# Altium footprint library Header.PcbLib: 112 footprints (part 7 of 7)
Each footprint in its own frame and in the unit in brackets; x right, y up, seen from the top. Pads: shape width x height; smd on the part's side, far side on the other; paste and mask are expansions set on the pad; w line width, h text height; cw(c..) or ccw(c..) is an arc to the next point about the centre after c.
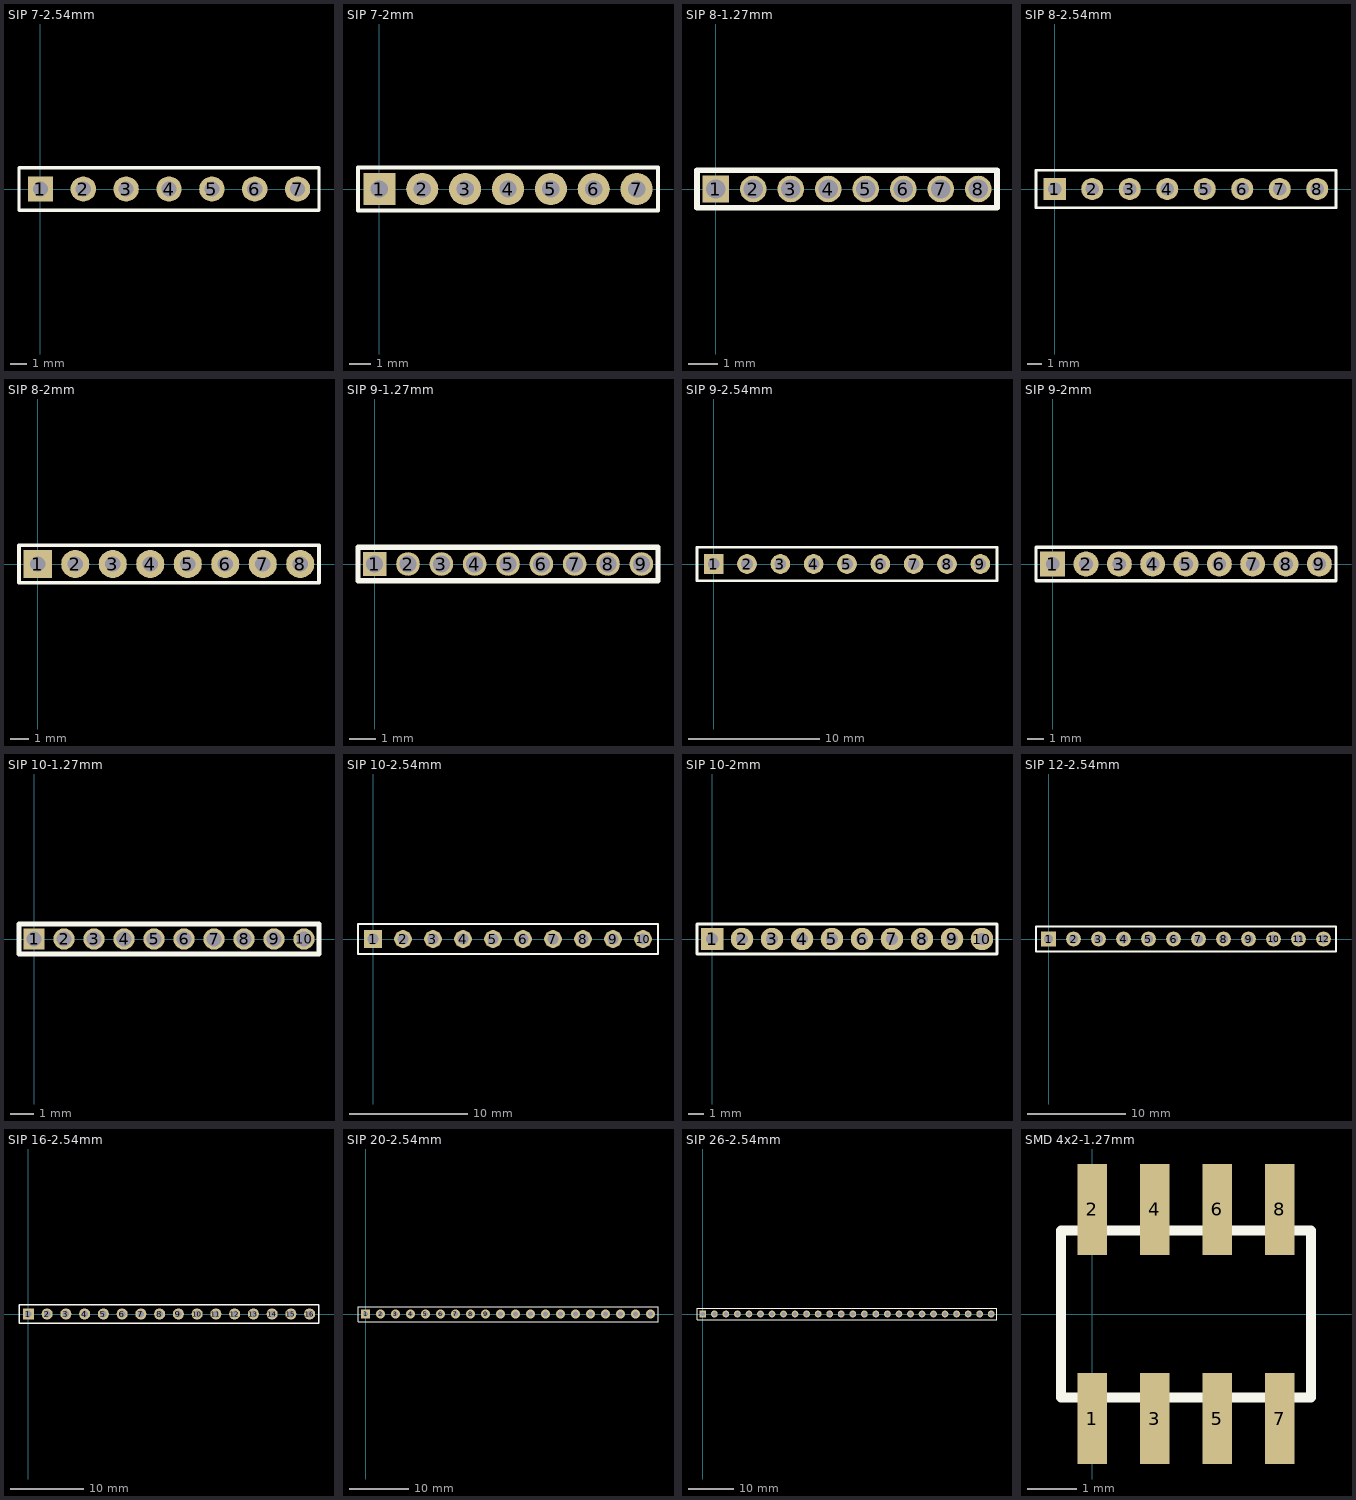
[diagram p6: the footprints below, top view; thin cyan lines are the x and y axes]

## SIP 7-2.54mm [mm]
pads (7):
  rect 1.5x1.5 hole 0.9: 1(0,0)
  round 1.5 hole 0.9: 2(2.54,0) 3(5.08,0) 4(7.62,0) 5(10.16,0) 6(12.7,0) 7(15.24,0)
Top Overlay:
  lines w0.2: -1.27,-1.27 16.51,-1.27 16.51,1.27 -1.27,1.27 -1.27,-1.27
3D body: height 7.5, standoff 0, extent 12.375,-0.325 13.025,0.325
3D body: height 7.5, standoff 0, extent 14.915,-0.325 15.565,0.325
3D body: height 7.5, standoff 0, extent 7.295,-0.325 7.945,0.325
3D body: height 7.5, standoff 0, extent 9.835,-0.325 10.485,0.325
3D body: height 7.5, standoff 0, extent 4.755,-0.325 5.405,0.325
3D body: height 7.5, standoff 0, extent 2.215,-0.325 2.865,0.325
3D body: height 1.5, standoff 0, extent -1.275,-1.275 16.51,1.275
3D body: height 7.5, standoff 0, extent -0.325,-0.325 0.325,0.325

## SIP 7-2mm [mm]
pads (7):
  rect 1.5x1.5 hole 0.813: 1(0,0)
  round 1.5 hole 0.813: 2(2,0) 3(4,0) 4(6,0) 5(8,0) 6(10,0) 7(12,0)
Top Overlay:
  lines w0.2: -1,-1 13,-1 13,1 -1,1 -1,-1
3D body: height 1.5, standoff 0, extent -1,-1 13,1
3D body: height 5.5, standoff 0, extent -0.25,-0.25 0.25,0.25
3D body: height 5.5, standoff 0, extent 1.75,-0.25 2.25,0.25
3D body: height 5.5, standoff 0, extent 3.75,-0.25 4.25,0.25
3D body: height 5.5, standoff 0, extent 5.75,-0.25 6.25,0.25
3D body: height 5.5, standoff 0, extent 7.75,-0.25 8.25,0.25
3D body: height 5.5, standoff 0, extent 9.75,-0.25 10.25,0.25
3D body: height 5.5, standoff 0, extent 11.75,-0.25 12.25,0.25

## SIP 8-1.27mm [mm]
pads (8):
  rect 0.9x0.9 hole 0.65: 1(0,0)
  round 0.9 hole 0.65: 2(1.27,0) 3(2.54,0) 4(3.81,0) 5(5.08,0) 6(6.35,0) 7(7.62,0) 8(8.89,0)
Top Overlay:
  lines w0.2: -0.635,-0.635 9.525,-0.635 9.525,0.635 -0.635,0.635 -0.635,-0.635
3D body: height 1, standoff 0, extent -0.625,-0.625 9.525,0.625
3D body: height 4, standoff 0, extent -0.2,-0.2 0.2,0.2
3D body: height 4, standoff 0, extent 1.07,-0.2 1.47,0.2
3D body: height 4, standoff 0, extent 2.34,-0.2 2.74,0.2
3D body: height 4, standoff 0, extent 3.61,-0.2 4.01,0.2
3D body: height 4, standoff 0, extent 4.88,-0.2 5.28,0.2
3D body: height 4, standoff 0, extent 6.15,-0.2 6.55,0.2
3D body: height 4, standoff 0, extent 7.42,-0.2 7.82,0.2
3D body: height 4, standoff 0, extent 8.69,-0.2 9.09,0.2

## SIP 8-2.54mm [mm]
pads (8):
  rect 1.5x1.5 hole 0.9: 1(0,0)
  round 1.5 hole 0.9: 2(2.54,0) 3(5.08,0) 4(7.62,0) 5(10.16,0) 6(12.7,0) 7(15.24,0) 8(17.78,0)
Top Overlay:
  lines w0.2: -1.27,-1.27 -1.27,1.27 19.05,1.27 19.05,-1.27 -1.27,-1.27
3D body: height 7.5, standoff 0, extent -0.325,-0.325 0.325,0.325
3D body: height 1.5, standoff 0, extent -1.275,-1.275 19.05,1.275
3D body: height 7.5, standoff 0, extent 2.215,-0.325 2.865,0.325
3D body: height 7.5, standoff 0, extent 4.755,-0.325 5.405,0.325
3D body: height 7.5, standoff 0, extent 9.835,-0.325 10.485,0.325
3D body: height 7.5, standoff 0, extent 7.295,-0.325 7.945,0.325
3D body: height 7.5, standoff 0, extent 14.915,-0.325 15.565,0.325
3D body: height 7.5, standoff 0, extent 12.375,-0.325 13.025,0.325
3D body: height 7.5, standoff 0, extent 17.455,-0.325 18.105,0.325

## SIP 8-2mm [mm]
pads (8):
  rect 1.5x1.5 hole 0.813: 1(0,0)
  round 1.5 hole 0.813: 2(2,0) 3(4,0) 4(6,0) 5(8,0) 6(10,0) 7(12,0) 8(14,0)
Top Overlay:
  lines w0.2: -1,-1 -1,1 15,1 15,-1 -1,-1
3D body: height 1.5, standoff 0, extent -1,-1 15,1
3D body: height 5.5, standoff 0, extent -0.25,-0.25 0.25,0.25
3D body: height 5.5, standoff 0, extent 1.75,-0.25 2.25,0.25
3D body: height 5.5, standoff 0, extent 3.75,-0.25 4.25,0.25
3D body: height 5.5, standoff 0, extent 5.75,-0.25 6.25,0.25
3D body: height 5.5, standoff 0, extent 7.75,-0.25 8.25,0.25
3D body: height 5.5, standoff 0, extent 9.75,-0.25 10.25,0.25
3D body: height 5.5, standoff 0, extent 11.75,-0.25 12.25,0.25
3D body: height 5.5, standoff 0, extent 13.75,-0.25 14.25,0.25

## SIP 9-1.27mm [mm]
pads (9):
  rect 0.9x0.9 hole 0.65: 1(0,0)
  round 0.9 hole 0.65: 2(1.27,0) 3(2.54,0) 4(3.81,0) 5(5.08,0) 6(6.35,0) 7(7.62,0) 8(8.89,0) 9(10.16,0)
Top Overlay:
  lines w0.2: -0.635,-0.635 10.795,-0.635 10.795,0.635 -0.635,0.635 -0.635,-0.635
3D body: height 1, standoff 0, extent -0.625,-0.625 10.795,0.625
3D body: height 4, standoff 0, extent -0.2,-0.2 0.2,0.2
3D body: height 4, standoff 0, extent 1.07,-0.2 1.47,0.2
3D body: height 4, standoff 0, extent 2.34,-0.2 2.74,0.2
3D body: height 4, standoff 0, extent 3.61,-0.2 4.01,0.2
3D body: height 4, standoff 0, extent 4.88,-0.2 5.28,0.2
3D body: height 4, standoff 0, extent 6.15,-0.2 6.55,0.2
3D body: height 4, standoff 0, extent 7.42,-0.2 7.82,0.2
3D body: height 4, standoff 0, extent 8.69,-0.2 9.09,0.2
3D body: height 4, standoff 0, extent 9.96,-0.2 10.36,0.2

## SIP 9-2.54mm [mm]
pads (9):
  rect 1.5x1.5 hole 0.9: 1(0,0)
  round 1.5 hole 0.9: 2(2.54,0) 3(5.08,0) 4(7.62,0) 5(10.16,0) 6(12.7,0) 7(15.24,0) 8(17.78,0) 9(20.32,0)
Top Overlay:
  lines w0.2: -1.27,-1.27 -1.27,1.27 21.59,1.27 21.59,-1.27 -1.27,-1.27
3D body: height 7.5, standoff 0, extent -0.325,-0.325 0.325,0.325
3D body: height 1.5, standoff 0, extent -1.27,-1.28 21.59,1.27
3D body: height 7.5, standoff 0, extent 2.215,-0.325 2.865,0.325
3D body: height 7.5, standoff 0, extent 4.755,-0.325 5.405,0.325
3D body: height 7.5, standoff 0, extent 9.835,-0.325 10.485,0.325
3D body: height 7.5, standoff 0, extent 7.295,-0.325 7.945,0.325
3D body: height 7.5, standoff 0, extent 14.915,-0.325 15.565,0.325
3D body: height 7.5, standoff 0, extent 12.375,-0.325 13.025,0.325
3D body: height 7.5, standoff 0, extent 17.455,-0.325 18.105,0.325
3D body: height 7.5, standoff 0, extent 19.995,-0.325 20.645,0.325

## SIP 9-2mm [mm]
pads (9):
  rect 1.5x1.5 hole 0.813: 1(0,0)
  round 1.5 hole 0.813: 2(2,0) 3(4,0) 4(6,0) 5(8,0) 6(10,0) 7(12,0) 8(14,0) 9(16,0)
Top Overlay:
  lines w0.2: -1,-1 17,-1 17,1 -1,1 -1,-1
3D body: height 1.5, standoff 0, extent -1,-1 17,1
3D body: height 5.5, standoff 0, extent -0.25,-0.25 0.25,0.25
3D body: height 5.5, standoff 0, extent 1.75,-0.25 2.25,0.25
3D body: height 5.5, standoff 0, extent 3.75,-0.25 4.25,0.25
3D body: height 5.5, standoff 0, extent 5.75,-0.25 6.25,0.25
3D body: height 5.5, standoff 0, extent 7.75,-0.25 8.25,0.25
3D body: height 5.5, standoff 0, extent 9.75,-0.25 10.25,0.25
3D body: height 5.5, standoff 0, extent 11.75,-0.25 12.25,0.25
3D body: height 5.5, standoff 0, extent 13.75,-0.25 14.25,0.25
3D body: height 5.5, standoff 0, extent 15.75,-0.25 16.25,0.25

## SIP 10-1.27mm [mm]
pads (10):
  rect 0.9x0.9 hole 0.65: 1(0,0)
  round 0.9 hole 0.65: 2(1.27,0) 3(2.54,0) 4(3.81,0) 5(5.08,0) 6(6.35,0) 7(7.62,0) 8(8.89,0) 9(10.16,0) 10(11.43,0)
Top Overlay:
  lines w0.2: -0.635,-0.635 -0.635,0.635 12.065,0.635 12.065,-0.635 -0.635,-0.635
3D body: height 4, standoff 0, extent 11.23,-0.2 11.63,0.2
3D body: height 4, standoff 0, extent 9.96,-0.2 10.36,0.2
3D body: height 4, standoff 0, extent 8.69,-0.2 9.09,0.2
3D body: height 4, standoff 0, extent 7.42,-0.2 7.82,0.2
3D body: height 4, standoff 0, extent 6.15,-0.2 6.55,0.2
3D body: height 4, standoff 0, extent 4.88,-0.2 5.28,0.2
3D body: height 4, standoff 0, extent 3.61,-0.2 4.01,0.2
3D body: height 4, standoff 0, extent 2.34,-0.2 2.74,0.2
3D body: height 4, standoff 0, extent 1.07,-0.2 1.47,0.2
3D body: height 4, standoff 0, extent -0.2,-0.2 0.2,0.2
3D body: height 1, standoff 0, extent -0.625,-0.625 12.075,0.625

## SIP 10-2.54mm [mm]
pads (10):
  rect 1.5x1.5 hole 0.9: 1(0,0)
  round 1.5 hole 0.9: 2(2.54,0) 3(5.08,0) 4(7.62,0) 5(10.16,0) 6(12.7,0) 7(15.24,0) 8(17.78,0) 9(20.32,0) 10(22.86,0)
Top Overlay:
  lines w0.2: -1.27,-1.27 24.13,-1.27 24.13,1.27 -1.27,1.27 -1.27,-1.27
3D body: height 7.5, standoff 0, extent 19.995,-0.325 20.645,0.325
3D body: height 7.5, standoff 0, extent 22.535,-0.325 23.185,0.325
3D body: height 7.5, standoff 0, extent 17.455,-0.325 18.105,0.325
3D body: height 7.5, standoff 0, extent 12.375,-0.325 13.025,0.325
3D body: height 7.5, standoff 0, extent 14.915,-0.325 15.565,0.325
3D body: height 7.5, standoff 0, extent 7.295,-0.325 7.945,0.325
3D body: height 7.5, standoff 0, extent 9.835,-0.325 10.485,0.325
3D body: height 7.5, standoff 0, extent 4.755,-0.325 5.405,0.325
3D body: height 7.5, standoff 0, extent 2.215,-0.325 2.865,0.325
3D body: height 1.5, standoff 0, extent -1.27,-1.28 24.13,1.27
3D body: height 7.5, standoff 0, extent -0.325,-0.325 0.325,0.325

## SIP 10-2mm [mm]
pads (10):
  rect 1.5x1.5 hole 0.813: 1(0,0)
  round 1.5 hole 0.813: 2(2,0) 3(4,0) 4(6,0) 5(8,0) 6(10,0) 7(12,0) 8(14,0) 9(16,0) 10(18,0)
Top Overlay:
  lines w0.2: -1,-1 -1,1 19,1 19,-1 -1,-1
3D body: height 1.5, standoff 0, extent -1,-1 19,1
3D body: height 5.5, standoff 0, extent -0.25,-0.25 0.25,0.25
3D body: height 5.5, standoff 0, extent 1.75,-0.25 2.25,0.25
3D body: height 5.5, standoff 0, extent 3.75,-0.25 4.25,0.25
3D body: height 5.5, standoff 0, extent 5.75,-0.25 6.25,0.25
3D body: height 5.5, standoff 0, extent 7.75,-0.25 8.25,0.25
3D body: height 5.5, standoff 0, extent 9.75,-0.25 10.25,0.25
3D body: height 5.5, standoff 0, extent 11.75,-0.25 12.25,0.25
3D body: height 5.5, standoff 0, extent 13.75,-0.25 14.25,0.25
3D body: height 5.5, standoff 0, extent 15.75,-0.25 16.25,0.25
3D body: height 5.5, standoff 0, extent 17.75,-0.25 18.25,0.25

## SIP 12-2.54mm [mm]
pads (12):
  rect 1.5x1.5 hole 0.9: 1(0,0)
  round 1.5 hole 0.9: 2(2.54,0) 3(5.08,0) 4(7.62,0) 5(10.16,0) 6(12.7,0) 7(15.24,0) 8(17.78,0) 9(20.32,0) 10(22.86,0) 11(25.4,0) 12(27.94,0)
Top Overlay:
  lines w0.2: -1.27,-1.27 29.21,-1.27 29.21,1.27 -1.27,1.27 -1.27,-1.27
3D body: height 7.5, standoff 0, extent 25.075,-0.325 25.725,0.325
3D body: height 7.5, standoff 0, extent 27.615,-0.325 28.265,0.325
3D body: height 7.5, standoff 0, extent 19.995,-0.325 20.645,0.325
3D body: height 7.5, standoff 0, extent 22.535,-0.325 23.185,0.325
3D body: height 7.5, standoff 0, extent 17.455,-0.325 18.105,0.325
3D body: height 7.5, standoff 0, extent 12.375,-0.325 13.025,0.325
3D body: height 7.5, standoff 0, extent 14.915,-0.325 15.565,0.325
3D body: height 7.5, standoff 0, extent 7.295,-0.325 7.945,0.325
3D body: height 7.5, standoff 0, extent 9.835,-0.325 10.485,0.325
3D body: height 7.5, standoff 0, extent 4.755,-0.325 5.405,0.325
3D body: height 7.5, standoff 0, extent 2.215,-0.325 2.865,0.325
3D body: height 1.5, standoff 0, extent -1.27,-1.28 29.21,1.27
3D body: height 7.5, standoff 0, extent -0.325,-0.325 0.325,0.325

## SIP 16-2.54mm [mm]
pads (16):
  rect 1.5x1.5 hole 0.9: 1(0,0)
  round 1.5 hole 0.9: 2(2.54,0) 3(5.08,0) 4(7.62,0) 5(10.16,0) 6(12.7,0) 7(15.24,0) 8(17.78,0) 9(20.32,0) 10(22.86,0) 11(25.4,0) 12(27.94,0) 13(30.48,0) 14(33.02,0) 15(35.56,0) 16(38.1,0)
Top Overlay:
  lines w0.2: -1.27,-1.27 39.37,-1.27 39.37,1.27 -1.27,1.27 -1.27,-1.27
3D body: height 7.5, standoff 0, extent 25.075,-0.325 25.725,0.325
3D body: height 7.5, standoff 0, extent 30.155,-0.325 30.805,0.325
3D body: height 7.5, standoff 0, extent 27.615,-0.325 28.265,0.325
3D body: height 7.5, standoff 0, extent 32.695,-0.325 33.345,0.325
3D body: height 7.5, standoff 0, extent 37.775,-0.325 38.425,0.325
3D body: height 7.5, standoff 0, extent 35.235,-0.325 35.885,0.325
3D body: height 7.5, standoff 0, extent 19.995,-0.325 20.645,0.325
3D body: height 7.5, standoff 0, extent 22.535,-0.325 23.185,0.325
3D body: height 7.5, standoff 0, extent 17.455,-0.325 18.105,0.325
3D body: height 7.5, standoff 0, extent 12.375,-0.325 13.025,0.325
3D body: height 7.5, standoff 0, extent 14.915,-0.325 15.565,0.325
3D body: height 7.5, standoff 0, extent 7.295,-0.325 7.945,0.325
3D body: height 7.5, standoff 0, extent 9.835,-0.325 10.485,0.325
3D body: height 7.5, standoff 0, extent 4.755,-0.325 5.405,0.325
3D body: height 7.5, standoff 0, extent 2.215,-0.325 2.865,0.325
3D body: height 1.5, standoff 0, extent -1.27,-1.28 39.37,1.27
3D body: height 7.5, standoff 0, extent -0.325,-0.325 0.325,0.325

## SIP 20-2.54mm [mm]
pads (20):
  rect 1.5x1.5 hole 0.9: 1(0,0)
  round 1.5 hole 0.9: 2(2.54,0) 3(5.08,0) 4(7.62,0) 5(10.16,0) 6(12.7,0) 7(15.24,0) 8(17.78,0) 9(20.32,0) 10(22.86,0) 11(25.4,0) 12(27.94,0) 13(30.48,0) 14(33.02,0) 15(35.56,0) 16(38.1,0) 17(40.64,0) 18(43.18,0) 19(45.72,0) 20(48.26,0)
Top Overlay:
  lines w0.2: -1.27,-1.27 -1.27,1.27 49.53,1.27 49.53,-1.27 -1.27,-1.27
3D body: height 7.5, standoff 0, extent -0.325,-0.325 0.325,0.325
3D body: height 1.5, standoff 0, extent -1.27,-1.28 49.53,1.27
3D body: height 7.5, standoff 0, extent 2.215,-0.325 2.865,0.325
3D body: height 7.5, standoff 0, extent 4.755,-0.325 5.405,0.325
3D body: height 7.5, standoff 0, extent 9.835,-0.325 10.485,0.325
3D body: height 7.5, standoff 0, extent 7.295,-0.325 7.945,0.325
3D body: height 7.5, standoff 0, extent 14.915,-0.325 15.565,0.325
3D body: height 7.5, standoff 0, extent 12.375,-0.325 13.025,0.325
3D body: height 7.5, standoff 0, extent 17.455,-0.325 18.105,0.325
3D body: height 7.5, standoff 0, extent 22.535,-0.325 23.185,0.325
3D body: height 7.5, standoff 0, extent 19.995,-0.325 20.645,0.325
3D body: height 7.5, standoff 0, extent 35.235,-0.325 35.885,0.325
3D body: height 7.5, standoff 0, extent 37.775,-0.325 38.425,0.325
3D body: height 7.5, standoff 0, extent 32.695,-0.325 33.345,0.325
3D body: height 7.5, standoff 0, extent 27.615,-0.325 28.265,0.325
3D body: height 7.5, standoff 0, extent 30.155,-0.325 30.805,0.325
3D body: height 7.5, standoff 0, extent 25.075,-0.325 25.725,0.325
3D body: height 7.5, standoff 0, extent 47.935,-0.325 48.585,0.325
3D body: height 7.5, standoff 0, extent 42.855,-0.325 43.505,0.325
3D body: height 7.5, standoff 0, extent 45.395,-0.325 46.045,0.325
3D body: height 7.5, standoff 0, extent 40.315,-0.325 40.965,0.325

## SIP 26-2.54mm [mm]
pads (26):
  rect 1.5x1.5 hole 0.9: 1(0,0)
  round 1.5 hole 0.9: 2(2.54,0) 3(5.08,0) 4(7.62,0) 5(10.16,0) 6(12.7,0) 7(15.24,0) 8(17.78,0) 9(20.32,0) 10(22.86,0) 11(25.4,0) 12(27.94,0) 13(30.48,0) 14(33.02,0) 15(35.56,0) 16(38.1,0) 17(40.64,0) 18(43.18,0) 19(45.72,0) 20(48.26,0) 21(50.8,0) 22(53.34,0) 23(55.88,0) 24(58.42,0) 25(60.96,0) 26(63.5,0)
Top Overlay:
  lines w0.2: -1.27,-1.27 -1.27,1.27 64.77,1.27 64.77,-1.27 -1.27,-1.27
3D body: height 7.5, standoff 0, extent 63.175,-0.325 63.825,0.325
3D body: height 7.5, standoff 0, extent 58.095,-0.325 58.745,0.325
3D body: height 7.5, standoff 0, extent 60.635,-0.325 61.285,0.325
3D body: height 7.5, standoff 0, extent 53.015,-0.325 53.665,0.325
3D body: height 7.5, standoff 0, extent 55.555,-0.325 56.205,0.325
3D body: height 7.5, standoff 0, extent 50.475,-0.325 51.125,0.325
3D body: height 7.5, standoff 0, extent 47.935,-0.325 48.585,0.325
3D body: height 7.5, standoff 0, extent 42.855,-0.325 43.505,0.325
3D body: height 7.5, standoff 0, extent 45.395,-0.325 46.045,0.325
3D body: height 7.5, standoff 0, extent 40.315,-0.325 40.965,0.325
3D body: height 7.5, standoff 0, extent 35.235,-0.325 35.885,0.325
3D body: height 7.5, standoff 0, extent 37.775,-0.325 38.425,0.325
3D body: height 7.5, standoff 0, extent 30.155,-0.325 30.805,0.325
3D body: height 7.5, standoff 0, extent 32.695,-0.325 33.345,0.325
3D body: height 7.5, standoff 0, extent 27.615,-0.325 28.265,0.325
3D body: height 7.5, standoff 0, extent 25.075,-0.325 25.725,0.325
3D body: height 7.5, standoff 0, extent -0.325,-0.325 0.325,0.325
3D body: height 1.5, standoff 0, extent -1.27,-1.28 64.77,1.27
3D body: height 7.5, standoff 0, extent 2.215,-0.325 2.865,0.325
3D body: height 7.5, standoff 0, extent 4.755,-0.325 5.405,0.325
3D body: height 7.5, standoff 0, extent 9.835,-0.325 10.485,0.325
3D body: height 7.5, standoff 0, extent 7.295,-0.325 7.945,0.325
3D body: height 7.5, standoff 0, extent 14.915,-0.325 15.565,0.325
3D body: height 7.5, standoff 0, extent 12.375,-0.325 13.025,0.325
3D body: height 7.5, standoff 0, extent 17.455,-0.325 18.105,0.325
3D body: height 7.5, standoff 0, extent 22.535,-0.325 23.185,0.325
3D body: height 7.5, standoff 0, extent 19.995,-0.325 20.645,0.325

## SMD 4x2-1.27mm [mm]
pads (8):
  rect 0.6x1.85 smd: 1(0,-2.125) 2(0,2.125) 3(1.27,-2.125) 4(1.27,2.125) 5(2.54,-2.125) 6(2.54,2.125) 7(3.81,-2.125) 8(3.81,2.125)
Top Overlay:
  lines w0.2: -0.635,-1.7 4.445,-1.7 4.445,1.7 -0.635,1.7 -0.635,-1.7
3D body: height 1.4, standoff 0.4, extent -0.625,-1.7 4.45,1.7
3D body: height 0.4, standoff 0, extent -0.2,0.65 0.2,2.75
3D body: height 0.4, standoff 0, extent -0.2,-2.75 0.2,-0.65
3D body: height 0.4, standoff 0, extent 1.075,-2.75 1.475,-0.65
3D body: height 0.4, standoff 0, extent 1.075,0.65 1.475,2.75
3D body: height 0.4, standoff 0, extent 2.35,-2.75 2.75,-0.65
3D body: height 0.4, standoff 0, extent 2.35,0.65 2.75,2.75
3D body: height 0.4, standoff 0, extent 3.625,-2.75 4.025,-0.65
3D body: height 0.4, standoff 0, extent 3.625,0.65 4.025,2.75
3D body: height 4.4, standoff 0, extent -0.2,0.45 0.2,0.85
3D body: height 4.4, standoff 0, extent -0.2,-0.85 0.2,-0.45
3D body: height 4.4, standoff 0, extent 1.075,-0.85 1.475,-0.45
3D body: height 4.4, standoff 0, extent 1.075,0.45 1.475,0.85
3D body: height 4.4, standoff 0, extent 2.35,-0.85 2.75,-0.45
3D body: height 4.4, standoff 0, extent 2.35,0.45 2.75,0.85
3D body: height 4.4, standoff 0, extent 3.625,-0.85 4.025,-0.45
3D body: height 4.4, standoff 0, extent 3.625,0.45 4.025,0.85